# Altium schematic symbol library PDB_schematicSymbols.SchLib: 13 symbols
Pins are listed as number, name and electrical type; pins without a type are passive.

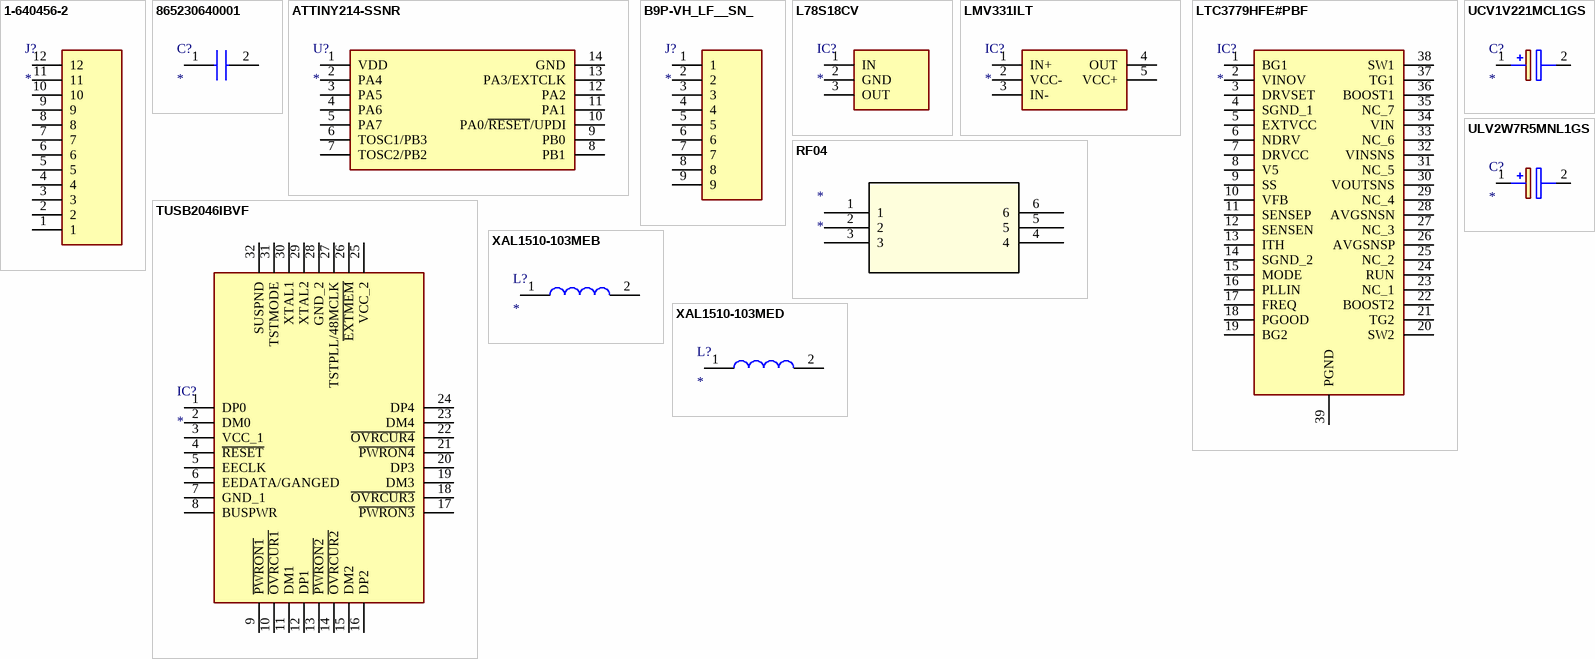
[diagram p0: symbols 1-640456-2 to XAL1510-103MED]

## 1-640456-2
designator J?
Connector; Manufacturer_Name: TE Connectivity; Manufacturer_Part_Number: 1-640456-2; Datasheet Link: http://uk.rs-online.com/web/p/products/1320456; Height: 10.033mm; Arrow Part Number: 1-640456-2; Arrow Price/Stock: https://www.arrow.com/en/products/1-640456-2/te-connectivity; Mouser Part Number: 571-16404562; Mouser Price/Stock: https://www.mouser.co.uk/ProductDetail/TE-Connectivity-AMP/1-640456-2?qs=%2F35zJ5USjokApekmqpRXhg%3D%3D
footprint 16404562
pins: 1, 2, 3, 4, 5, 6, 7, 8, 9, 10, 11, 12

## 865230640001
designator C?
Capacitor; Manufacturer_Name: Wurth Elektronik; Manufacturer_Part_Number: 865230640001; Datasheet Link: http://uk.rs-online.com/webdocs/135a/0900766b8135a640.pdf; Arrow Part Number: 865230640001; Mouser Part Number: 710-865230640001; Mouser Price/Stock: https://www.mouser.co.uk/ProductDetail/Wurth-Elektronik/865230640001?qs=0KOYDY2FL28kfhWstjZGVg%3D%3D
footprint 865230640001
pins: 1 -, 2 +

## ATTINY214-SSNR
designator U?
Undefined or Miscellaneous; Manufacturer_Name: Microchip; Manufacturer_Part_Number: ATTINY214-SSNR; Datasheet Link: http://ww1.microchip.com/downloads/en/DeviceDoc/40001912A.pdf; Height: 1.75mm; Arrow Part Number: ATTINY214-SSNR; Arrow Price/Stock: https://www.arrow.com/en/products/attiny214-ssnr/microchip-technology; Mouser Part Number: 579-ATTINY214-SSNR; Mouser Price/Stock: https://www.mouser.co.uk/ProductDetail/Microchip-Technology-Atmel/ATTINY214-SSNR?qs=j%252B1pi9TdxUYPF4H9YJ1cSA%3D%3D
footprint SOIC127P600X175-14N
pins: 1 VDD, 2 PA4, 3 PA5, 4 PA6, 5 PA7, 6 TOSC1/PB3, 7 TOSC2/PB2, 8 PB1, 9 PB0, 10 PA0/~{RESET}/UPDI, 11 PA1, 12 PA2, 13 PA3/EXTCLK, 14 GND

## B9P-VH_LF__SN_
designator J?
Connector; Manufacturer_Name: JST Sales America; Manufacturer_Part_Number: B9P-VH(LF)(SN); Datasheet Link: https://datasheet.lcsc.com/szlcsc/JST-Sales-America-VHseries-socket-1-9P-pitch3-96mm-Straight-line_C160321.pdf; Height: 8.5mm; Arrow Part Number: B9P-VH(LF)(SN)
footprint B9PVHLFSN
pins: 1, 2, 3, 4, 5, 6, 7, 8, 9

## L78S18CV
designator IC?
Integrated Circuit; Manufacturer_Name: STMicroelectronics; Manufacturer_Part_Number: L78S18CV; Datasheet Link: http://www.st.com/web/en/resource/technical/document/datasheet/CD00000449.pdf; Height: 4.6mm; Arrow Part Number: L78S18CV; Arrow Price/Stock: https://www.arrow.com/en/products/l78s18cv/stmicroelectronics; Mouser Part Number: 511-L78S18CV; Mouser Price/Stock: https://www.mouser.com/Search/Refine.aspx?Keyword=511-L78S18CV
footprint TO270P460X1020X2008-3P
pins: 1 IN (power), 2 GND (power), 3 OUT (power)

## LMV331ILT
designator IC?
Integrated Circuit; Manufacturer_Name: STMicroelectronics; Manufacturer_Part_Number: LMV331ILT; Datasheet Link: http://www.farnell.com/datasheets/2042663.pdf; Height: 1.45mm; Arrow Part Number: LMV331ILT; Arrow Price/Stock: https://www.arrow.com/en/products/lmv331ilt/stmicroelectronics; Mouser Part Number: 511-LMV331ILT; Mouser Price/Stock: https://www.mouser.co.uk/ProductDetail/STMicroelectronics/LMV331ILT?qs=SAP8%252B8699SAkQDtq%2FuXtsA%3D%3D
footprint SOT95P280X145-5N
pins: 1 IN+, 2 VCC-, 3 IN-, 4 OUT, 5 VCC+

## LTC3779HFE#PBF
designator IC?
Integrated Circuit; Manufacturer_Name: Linear Technology; Manufacturer_Part_Number: LTC3779HFE#PBF; Datasheet Link: http://cds.linear.com/docs/en/datasheet/3779f_%281%29.pdf; Height: 1.2mm; Arrow Part Number: LTC3779HFE#PBF; Arrow Price/Stock: https://www.arrow.com/en/products/ltc3779hfepbf/linear-technology; Mouser Part Number: 584-LTC3779HFEPBF; Mouser Price/Stock: https://www.mouser.co.uk/ProductDetail/Analog-Devices-Linear-Technology/LTC3779HFEPBF?qs=YCa%2FAAYMW03CZiEeCHWYDw%3D%3D
footprint SOP50P640X120-39N
pins: 1 BG1, 2 VINOV, 3 DRVSET, 4 SGND_1, 5 EXTVCC, 6 NDRV, 7 DRVCC, 8 V5, 9 SS, 10 VFB, 11 SENSEP, 12 SENSEN, 13 ITH, 14 SGND_2, 15 MODE, 16 PLLIN, 17 FREQ, 18 PGOOD, 19 BG2, 20 SW2, 21 TG2, 22 BOOST2, 23 NC_1, 24 RUN, 25 NC_2, 26 AVGSNSP, 27 NC_3, 28 AVGSNSN, 29 NC_4, 30 VOUTSNS, 31 NC_5, 32 VINSNS, 33 NC_6, 34 VIN, 35 NC_7, 36 BOOST1, 37 TG1, 38 SW1, 39 PGND

## RF04
designator *
footprint RF04
pins: 1, 2, 3, 4, 5, 6

## TUSB2046IBVF
designator IC?
Integrated Circuit; Manufacturer_Name: Texas Instruments; Manufacturer_Part_Number: TUSB2046IBVF; Description: 4-port 12-Mbps USB full-speed hub with optional serial EEPROM interface; Datasheet Link: http://www.ti.com/lit/gpn/tusb2046i; Height: 1.6mm; Mouser Part Number: 595-TUSB2046IBVF; Mouser Price/Stock: https://www.mouser.co.uk/ProductDetail/Texas-Instruments/TUSB2046IBVF?qs=HXFqYaX1Q2zoacj5Hiwo4Q%3D%3D; Arrow Part Number: TUSB2046IBVF; Arrow Price/Stock: https://www.arrow.com/en/products/tusb2046ibvf/texas-instruments
footprint QFP80P900X900X160-32N
pins: 1 DP0, 2 DM0, 3 VCC_1, 4 ~{RESET}, 5 EECLK, 6 EEDATA/GANGED, 7 GND_1, 8 BUSPWR, 9 ~{PWRON1}, 10 ~{OVRCUR1}, 11 DM1, 12 DP1, 13 ~{PWRON2}, 14 ~{OVRCUR2}, 15 DM2, 16 DP2, 17 ~{PWRON3}, 18 ~{OVRCUR3}, 19 DM3, 20 DP3, 21 ~{PWRON4}, 22 ~{OVRCUR4}, 23 DM4, 24 DP4, 25 VCC_2, 26 ~{EXTMEM}, 27 TSTPLL/48MCLK, 28 GND_2, 29 XTAL2, 30 XTAL1, 31 TSTMODE, 32 SUSPND

## UCV1V221MCL1GS
designator C?
Capacitor Polarised; Manufacturer_Name: Nichicon; Manufacturer_Part_Number: UCV1V221MCL1GS; Datasheet Link: https://www.arrow.com/en/products/ucv1v221mcl1gs/nichicon; Height: 8mm
footprint CAPAE660X800N
pins: 1 + (power), 2 - (power)

## ULV2W7R5MNL1GS
designator C?
Capacitor Polarised; Manufacturer_Name: Nichicon; Manufacturer_Part_Number: ULV2W7R5MNL1GS; Datasheet Link: http://www.nichicon.co.jp/english/products/pdfs/e-ulv.pdf; Height: 14.5mm; Arrow Part Number: ULV2W7R5MNL1GS; Arrow Price/Stock: https://www.arrow.com/en/products/ulv2w7r5mnl1gs/nichicon; Mouser Part Number: 647-ULV2W7R5MNL1GS; Mouser Price/Stock: https://www.mouser.co.uk/ProductDetail/Nichicon/ULV2W7R5MNL1GS?qs=aoAypCcaRa8S0jgdKPSENg%3D%3D
footprint CAPAE1030X1450N
pins: 1 +, 2 -

## XAL1510-103MEB
designator L?
Inductor; Manufacturer_Name: COILCRAFT; Manufacturer_Part_Number: XAL1510-103MEB; Datasheet Link: https://www.coilcraft.com/pdfs/xal1510.pdf; Height: 13mm; Arrow Part Number: XAL1510-103MEB; Mouser Part Number: 994-XAL1510-103MEB; Mouser Price/Stock: https://www.mouser.co.uk/ProductDetail/Coilcraft/XAL1510-103MEB?qs=41NYZ3YTmyqh4oZELkMzIA%3D%3D
footprint XAL1513153MEB
pins: 1, 2

## XAL1510-103MED
designator L?
Inductor; Manufacturer_Name: COILCRAFT; Manufacturer_Part_Number: XAL1510-103MED; Datasheet Link: https://www.coilcraft.com/pdfs/xal1510.pdf; Height: 13mm; Arrow Part Number: XAL1510-103MED; Mouser Part Number: 994-XAL1510-103MED; Mouser Price/Stock: https://www.mouser.co.uk/ProductDetail/Coilcraft/XAL1510-103MED?qs=41NYZ3YTmyo92lKEhFAS8w%3D%3D
footprint XAL1513153MEB
pins: 1, 2